# EAGLE library part DRV8840PWPR (library wobbleBot)
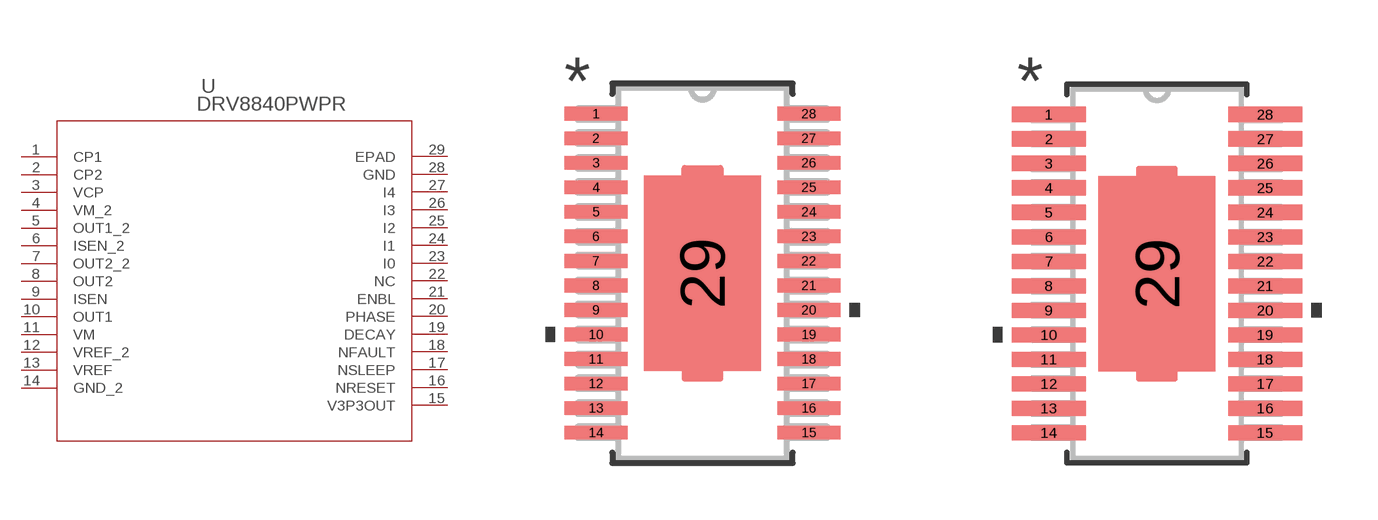
[diagram p0: symbol with the pads of PWP28_5P18X3P1; footprints PWP28_5P18X3P1, PWP28_5P18X3P1-M]

Designator prefix U

## DRV8840PWPR (MANUFACTURER_PART_NUMBER: DRV8840PWPR; VENDOR: Texas Instruments)  [PWP28_5P18X3P1]
1  CP1
2  CP2
3  VCP
4  VM_2  pwr
5  OUT1_2  out
6  ISEN_2
7  OUT2_2  out
8  OUT2  out
9  ISEN
10  OUT1  out
11  VM  pwr
12  VREF_2  in
13  VREF  in
14  GND_2  pwr
15  V3P3OUT  out
16  NRESET  in
17  NSLEEP  in
18  NFAULT  out
19  DECAY  in
20  PHASE  in
21  ENBL  in
22  NC  pas
23  I0  in
24  I1  in
25  I2  in
26  I3  in
27  I4  in
28  GND  pwr
29  EPAD  pas

## DRV8840PWPRPWP28_5P18X3P1-M (MANUFACTURER_PART_NUMBER: DRV8840PWPR; VENDOR: Texas Instruments)  [PWP28_5P18X3P1-M]
Pads as for PWP28_5P18X3P1

## DRV8840PWPRPWP28_5P18X3P1-L (MANUFACTURER_PART_NUMBER: DRV8840PWPR; VENDOR: Texas Instruments)  [PWP28_5P18X3P1-L]
Pads as for PWP28_5P18X3P1

## Footprint PWP28_5P18X3P1 (pad centres in mm)
smd 1.665 x 0.365: 1 -2.819,4.225; 2 -2.819,3.575; 3 -2.819,2.925; 4 -2.819,2.275; 5 -2.819,1.625; 6 -2.819,0.975; 7 -2.819,0.325; 8 -2.819,-0.325; 9 -2.819,-0.975; 10 -2.819,-1.625; 11 -2.819,-2.275; 12 -2.819,-2.925; 13 -2.819,-3.575; 14 -2.819,-4.225; 15 2.819,-4.225; 16 2.819,-3.575; 17 2.819,-2.925; 18 2.819,-2.275; 19 2.819,-1.625; 20 2.819,-0.975; 21 2.819,-0.325; 22 2.819,0.325; 23 2.819,0.975; 24 2.819,1.625; 25 2.819,2.275; 26 2.819,2.925; 27 2.819,3.575; 28 2.819,4.225
smd 3.1 x 5.18: 29 0,0

## Footprint PWP28_5P18X3P1-M (pad centres in mm)
smd 1.965 x 0.405: 1 -2.869,4.225; 2 -2.869,3.575; 3 -2.869,2.925; 4 -2.869,2.275; 5 -2.869,1.625; 6 -2.869,0.975; 7 -2.869,0.325; 8 -2.869,-0.325; 9 -2.869,-0.975; 10 -2.869,-1.625; 11 -2.869,-2.275; 12 -2.869,-2.925; 13 -2.869,-3.575; 14 -2.869,-4.225; 15 2.869,-4.225; 16 2.869,-3.575; 17 2.869,-2.925; 18 2.869,-2.275; 19 2.869,-1.625; 20 2.869,-0.975; 21 2.869,-0.325; 22 2.869,0.325; 23 2.869,0.975; 24 2.869,1.625; 25 2.869,2.275; 26 2.869,2.925; 27 2.869,3.575; 28 2.869,4.225
smd 3.1 x 5.18: 29 0,0

## Footprint PWP28_5P18X3P1-L (pad centres in mm)
smd 1.365 x 0.325: 1 -2.769,4.225; 2 -2.769,3.575; 3 -2.769,2.925; 4 -2.769,2.275; 5 -2.769,1.625; 6 -2.769,0.975; 7 -2.769,0.325; 8 -2.769,-0.325; 9 -2.769,-0.975; 10 -2.769,-1.625; 11 -2.769,-2.275; 12 -2.769,-2.925; 13 -2.769,-3.575; 14 -2.769,-4.225; 15 2.769,-4.225; 16 2.769,-3.575; 17 2.769,-2.925; 18 2.769,-2.275; 19 2.769,-1.625; 20 2.769,-0.975; 21 2.769,-0.325; 22 2.769,0.325; 23 2.769,0.975; 24 2.769,1.625; 25 2.769,2.275; 26 2.769,2.925; 27 2.769,3.575; 28 2.769,4.225
smd 3.1 x 5.18: 29 0,0